# Altium footprint library Diver Board V1.0.PcbLib: 20 footprints (part 1 of 2)
Each footprint in its own frame and in the unit in brackets; x right, y up, seen from the top. Pads: shape width x height; smd on the part's side, far side on the other; paste and mask are expansions set on the pad; w line width, h text height; cw(c..) or ccw(c..) is an arc to the next point about the centre after c.
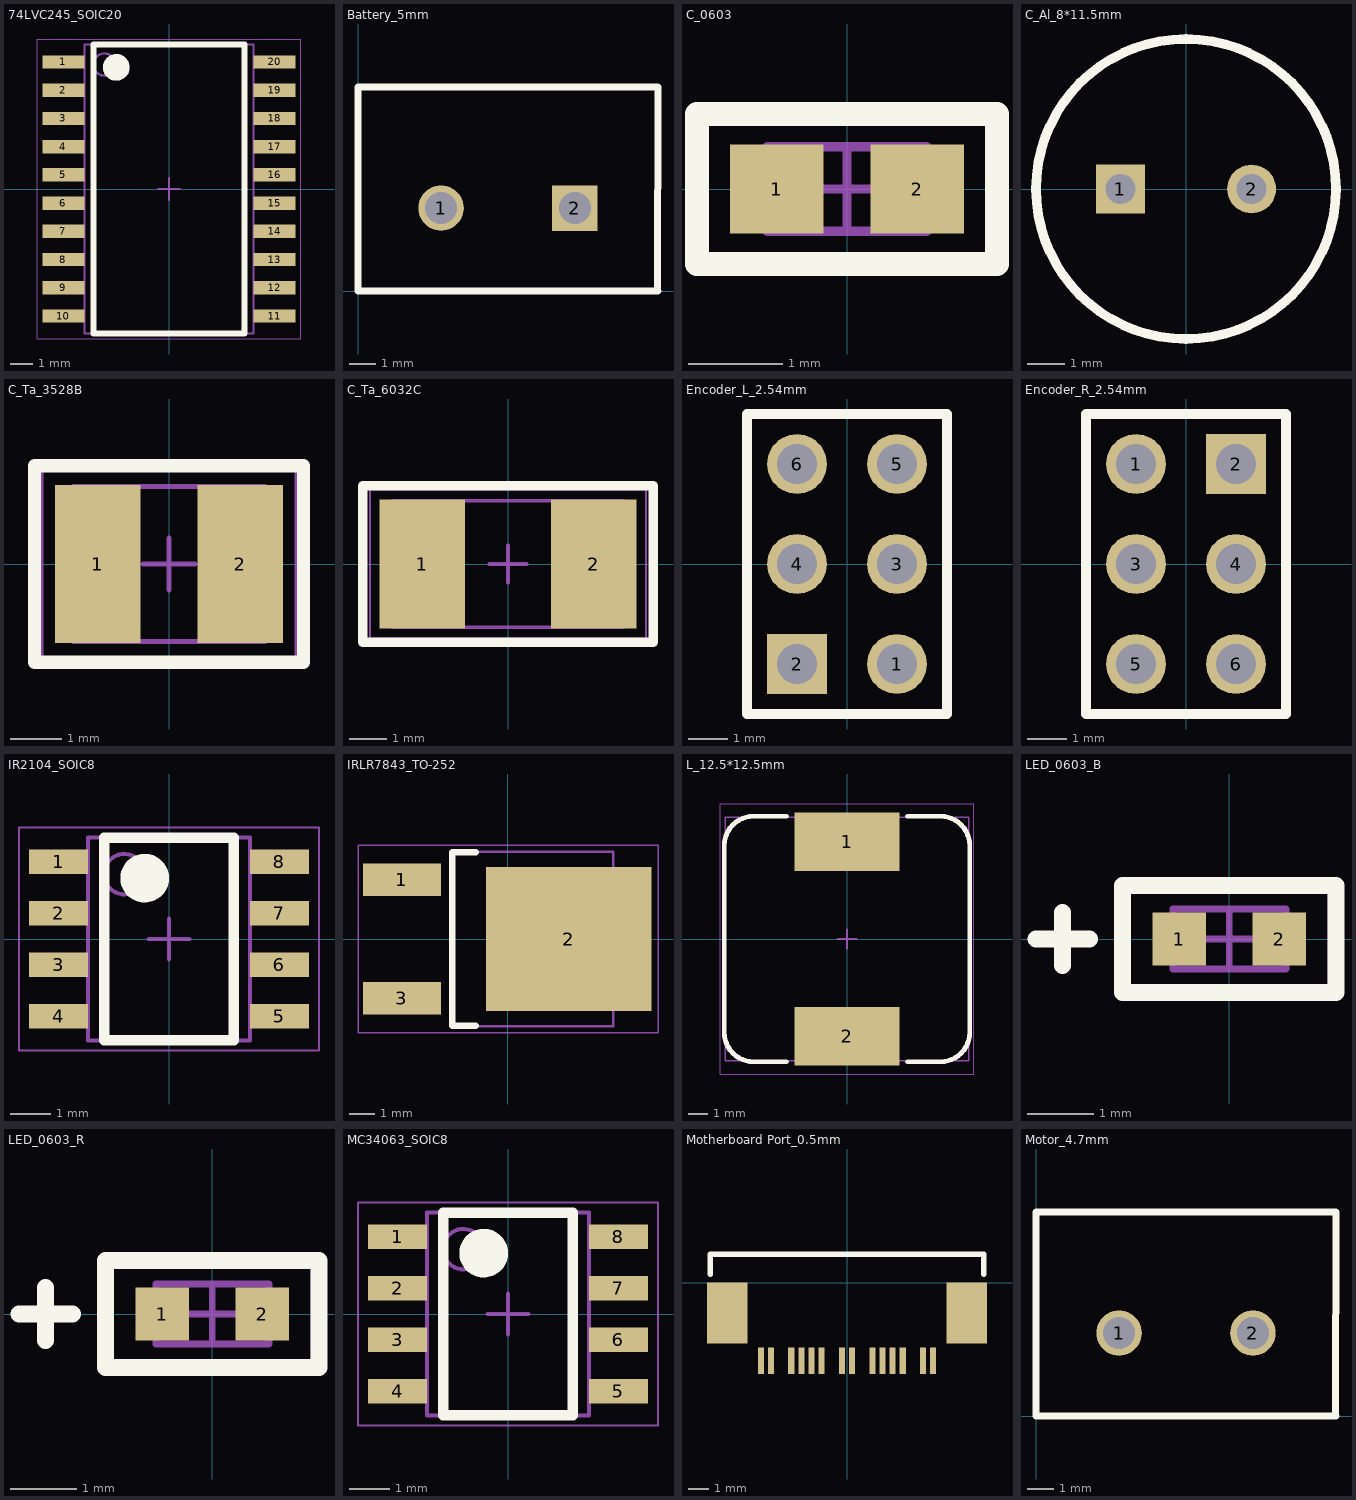
[diagram p0: the footprints below, top view; thin cyan lines are the x and y axes]

## 74LVC245_SOIC20 [mm]
pads (20):
  rect 1.9x0.6 smd: 1(-4.75,5.715) 2(-4.75,4.445) 3(-4.75,3.175) 4(-4.75,1.905) 5(-4.75,0.635) 6(-4.75,-0.635) 7(-4.75,-1.905) 8(-4.75,-3.175) 9(-4.75,-4.445) 10(-4.75,-5.715) 11(4.75,-5.715) 12(4.75,-4.445) 13(4.75,-3.175) 14(4.75,-1.905) 15(4.75,-0.635) 16(4.75,0.635) 17(4.75,1.905) 18(4.75,3.175) 19(4.75,4.445) 20(4.75,5.715)
Top Overlay:
  circle w0.6: c-2.373,5.473 r0.3
  lines w0.254: 1.1,6.5 3.4,6.5 3.4,-6.5 -3.4,-6.5 -3.4,6.5 1.2,6.5
Assembly Top:
  circle w0.1: c-2.9,5.6 r0.5
  lines w0.1: -3.8,-6.5 -3.8,6.5 3.8,6.5 3.8,-6.5 -3.8,-6.5
Courtyard Top:
  lines w0.05: -5.925,-6.75 -5.925,6.75 5.925,6.75 5.925,-6.75 -5.925,-6.75
  lines w0.1: -0.5,0 0.5,0 ; 0,-0.5 0,0.5
3D body "TI_SN74LVC245A_SOIC-20.stp": height 1.75, standoff 0, extent -5.164,-6.4 5.165,6.4

## Battery_5mm [mm]
pads (2):
  round 1.7 hole 1.2: 1(3.1,3.1)
  rect 1.7x1.7 hole 1.2: 2(8.1,3.1)
Top Overlay:
  lines w0.254: 0,7.6 0,0 11.2,0 ; 0,7.62 11.2,7.62 ; 11.176,0 11.2,7.6
3D body "PHOENIX CONTACT_2P_5mm_10mm.stp": height 10, standoff -3.5, extent 0.03,-0.975 10.6,7.175

## C_0603 [mm]
pads (2):
  rect 1x0.95 smd: 1(-0.75,0) 2(0.75,0)
Top Overlay:
  lines w0.254: -1.6,-0.8 1.6,-0.8 1.6,0.8 -1.6,0.8 -1.6,-0.8
Assembly Top:
  lines w0.1: -0.85,-0.45 -0.85,0.45 0.85,0.45 0.85,-0.45 -0.85,-0.45
Courtyard Top:
  lines w0.05: -1.5,-0.75 -1.5,0.75 1.5,0.75 1.5,-0.75 -1.5,-0.75
  lines w0.1: -0.45,0 0.45,0 ; 0,-0.45 0,0.45
3D body "C_0603.STEP": height 0.9, standoff 0, extent -0.8,-0.4 0.8,0.4

## C_Al_8*11.5mm [mm]
pads (2):
  rect 1.3x1.3 hole 0.8: 1(-1.75,0)
  round 1.3 hole 0.8: 2(1.75,0)
Top Overlay:
  circle w0.254: c0,0 r4
3D body "8x11.5_Lead.stp": height 11.5, standoff -19, extent -4,-3.997 4,3.998
3D body: height 0.45, standoff 0, extent 0,-1.27 0,-1.27

## C_Ta_3528B [mm]
pads (2):
  rect 1.65x3.05 smd: 1(-1.375,0) 2(1.375,0)
Top Overlay:
  lines w0.254: -2.6,-1.9 2.6,-1.9 2.6,1.9 -2.6,1.9 -2.6,-1.9
Assembly Top:
  lines w0.1: -1.85,-1.5 -1.85,1.5 1.85,1.5 1.85,-1.5 -1.85,-1.5
Courtyard Top:
  lines w0.05: -2.45,-1.8 -2.45,1.8 2.45,1.8 2.45,-1.8 -2.45,-1.8
  lines w0.1: -0.5,0 0.5,0 ; 0,-0.5 0,0.5
3D body "CaseB_3528.STEP": height 1.9, standoff 0, extent -1.77,-1.4 1.73,1.4

## C_Ta_6032C [mm]
pads (2):
  rect 2.3x3.45 smd: 1(-2.3,0) 2(2.3,0)
Top Overlay:
  lines w0.254: -3.9,-2.1 3.9,-2.1 3.9,2.1 -3.9,2.1 -3.9,-2.1
Assembly Top:
  lines w0.1: -3.1,-1.7 3.1,-1.7 3.1,1.7 -3.1,1.7 -3.1,-1.7
Courtyard Top:
  lines w0.05: -3.7,-2 3.7,-2 3.7,2 -3.7,2 -3.7,-2
  lines w0.1: -0.5,0 0.5,0 ; 0,-0.5 0,0.5
3D body "CaseC_6032.STEP": height 2.5, standoff 0, extent -2.97,-1.6 3.03,1.6

## Encoder_L_2.54mm [mm]
pads (6):
  round 1.52 hole 1.02: 1(1.27,-2.54) 3(1.27,0) 4(-1.27,0) 5(1.27,2.54) 6(-1.27,2.54)
  rect 1.52x1.52 hole 1.02: 2(-1.27,-2.54)
Top Overlay:
  lines w0.254: -2.54,-3.81 -2.54,3.81 0,3.81 2.54,3.81 2.54,-3.81 0,-3.81 -2.54,-3.81
3D body "s3.STEP": height 8.54, standoff -3, extent -2.515,-3.81 -0.025,3.81
3D body "s3.STEP": height 8.54, standoff -3, extent 0.025,-3.81 2.515,3.81

## Encoder_R_2.54mm [mm]
pads (6):
  round 1.52 hole 1.02: 1(-1.27,2.54) 3(-1.27,0) 4(1.27,0) 5(-1.27,-2.54) 6(1.27,-2.54)
  rect 1.52x1.52 hole 1.02: 2(1.27,2.54)
Top Overlay:
  lines w0.254: -2.54,-3.81 0,-3.81 2.54,-3.81 2.54,3.81 0,3.81 -2.54,3.81 -2.54,-3.81
3D body "s3.STEP": height 8.54, standoff -3, extent 0.025,-3.81 2.515,3.81
3D body "s3.STEP": height 8.54, standoff -3, extent -2.515,-3.81 -0.025,3.81

## IR2104_SOIC8 [mm]
pads (8):
  rect 1.45x0.6 smd: 1(-2.725,1.905) 2(-2.725,0.635) 3(-2.725,-0.635) 4(-2.725,-1.905) 5(2.725,-1.905) 6(2.725,-0.635) 7(2.725,0.635) 8(2.725,1.905)
Top Overlay:
  circle w0.6: c-0.6,1.5 r0.3
  lines w0.254: 0.6,2.5 1.6,2.5 1.6,-2.5 -1.6,-2.5 -1.6,2.5 0.7,2.5
Assembly Top:
  circle w0.1: c-1.1,1.6 r0.5
  lines w0.1: -2,-2.5 2,-2.5 2,2.5 -2,2.5 -2,-2.5
Courtyard Top:
  lines w0.05: -3.7,-2.75 3.7,-2.75 3.7,2.75 -3.7,2.75 -3.7,-2.75
  lines w0.1: -0.5,0 0.5,0 ; 0,-0.5 0,0.5
3D body "TI_TPS73xx_SOCI-8.stp": height 1.63, standoff 0, extent -3.011,-2.451 3.011,2.451

## IRLR7843_TO-252 [mm]
height 2.39
pads (3):
  rect 3x1.25 smd: 1(-4.1,2.29) 3(-4.1,-2.29)
  rect 6.4x5.55 smd: 2(2.35,0)
Top Overlay:
  lines w0.254: -1.25,-3.35 -2.15,-3.35 -2.15,3.35 -1.25,3.35
Assembly Top:
  lines w0.1: -2.15,-3.375 4.07,-3.375 4.07,3.375 -2.15,3.375 -2.15,-3.375
Courtyard Top:
  lines w0.05: -5.8,-3.625 5.8,-3.625 5.8,3.625 -5.8,3.625 -5.8,-3.625
  lines w0.1: -0.5,0 0.5,0 ; 0,-0.5 0,0.5
3D body "DPAK_TO-252AA.STEP": height 2.37, standoff -0.03, extent -5.18,-3.37 4.92,3.364

## L_12.5*12.5mm [mm]
height 8
pads (2):
  rect 5.4x3 smd: 1(0,5) 2(0,-5)
Top Overlay:
  lines w0.254: -3.1,-6.3 -4.8,-6.3 cw(c-4.8,-4.8) -6.3,-4.8 -6.3,4.8 cw(c-4.8,4.8) -4.8,6.3 -3.1,6.3 ; 3.1,-6.3 4.8,-6.3 ccw(c4.8,-4.8) 6.3,-4.8 6.3,4.8 ccw(c4.8,4.8) 4.8,6.3 3.1,6.3
Assembly Top:
  lines w0.1: -6.25,-6.25 6.25,-6.25 6.25,6.25 -6.25,6.25 -6.25,-6.25
Courtyard Top:
  lines w0.05: -6.5,-6.95 6.5,-6.95 6.5,6.95 -6.5,6.95 -6.5,-6.95
  lines w0.1: -0.5,0 0.5,0 ; 0,-0.5 0,0.5
3D body "L_470uH.STEP": height 10.35, standoff -0.01, extent -6,-6 6,6

## LED_0603_B [mm]
pads (2):
  rect 0.8x0.8 smd: 1(-0.75,0) 2(0.75,0)
Top Overlay:
  lines w0.254: -2.9,0 -2.1,0 ; -2.5,-0.4 -2.5,0.4 ; -1.6,-0.8 1.6,-0.8 1.6,0.8 -1.6,0.8 -1.6,-0.8
Assembly Top:
  lines w0.1: -0.85,-0.45 -0.85,0.45 0.85,0.45 0.85,-0.45 -0.85,-0.45
Courtyard Top:
  lines w0.05: -1.5,-0.7 -1.5,0.7 1.5,0.7 1.5,-0.7 -1.5,-0.7
  lines w0.1: -0.45,0 0.45,0 ; 0,-0.45 0,0.45
3D body "LED_0603_B.STEP": height 0.6, standoff 0, extent -0.8,-0.4 0.8,0.4

## LED_0603_R [mm]
pads (2):
  rect 0.8x0.8 smd: 1(-0.75,0) 2(0.75,0)
Top Overlay:
  lines w0.254: -2.9,0 -2.1,0 ; -2.5,-0.4 -2.5,0.4 ; -1.6,-0.8 1.6,-0.8 1.6,0.8 -1.6,0.8 -1.6,-0.8
Assembly Top:
  lines w0.1: -0.85,-0.45 -0.85,0.45 0.85,0.45 0.85,-0.45 -0.85,-0.45
Courtyard Top:
  lines w0.05: -1.5,-0.7 -1.5,0.7 1.5,0.7 1.5,-0.7 -1.5,-0.7
  lines w0.1: -0.45,0 0.45,0 ; 0,-0.45 0,0.45
3D body "LED_0603_R.STEP": height 0.6, standoff 0, extent -0.8,-0.4 0.8,0.4

## MC34063_SOIC8 [mm]
pads (8):
  rect 1.45x0.6 smd: 1(-2.725,1.905) 2(-2.725,0.635) 3(-2.725,-0.635) 4(-2.725,-1.905) 5(2.725,-1.905) 6(2.725,-0.635) 7(2.725,0.635) 8(2.725,1.905)
Top Overlay:
  circle w0.6: c-0.6,1.5 r0.3
  lines w0.254: -1.6,-2.5 -1.6,2.5 0.6,2.5 1.6,2.5 1.6,-2.5 -1.6,-2.5
Assembly Top:
  circle w0.1: c-1.1,1.6 r0.5
  lines w0.1: -2,-2.5 -2,2.5 2,2.5 2,-2.5 -2,-2.5
Courtyard Top:
  lines w0.05: -3.7,-2.75 -3.7,2.75 3.7,2.75 3.7,-2.75 -3.7,-2.75
  lines w0.1: -0.5,0 0.5,0 ; 0,-0.5 0,0.5
3D body "TI_TPS73xx_SOCI-8.stp": height 1.63, standoff 0, extent -3.011,-2.451 3.011,2.451

## Motherboard Port_0.5mm [mm]
pads (16):
  rect 0.3x1.3 smd: 1(-4.25,-3.85) 2(-3.75,-3.85) 4(-2.75,-3.85) 5(-2.25,-3.85) 6(-1.75,-3.85) 7(-1.25,-3.85) 9(-0.25,-3.85) 10(0.25,-3.85) 12(1.25,-3.85) 13(1.75,-3.85) 14(2.25,-3.85) 15(2.75,-3.85) 17(3.75,-3.85) 18(4.25,-3.85)
  rect 2x3 smd: ""(-5.9,-1.5) ""(5.9,-1.5)
Top Overlay:
  lines w0.254: -6.75,0.4 -6.75,1.4 6.75,1.4 6.75,0.4
3D body "FPC-18P_0.5mm.STEP": height 2.2, standoff -0.05, extent -6.55,-3.81 6.55,2.689

## Motor_4.7mm [mm]
pads (2):
  round 1.7 hole 1.2: 1(3.1,3.1) 2(8.1,3.1)
Top Overlay:
  lines w0.254: 0,7.6 0,0 11.2,0 ; 0,7.62 11.2,7.62 ; 11.176,0 11.2,7.6
3D body "PHOENIX CONTACT_2P_5mm_10mm.stp": height 10, standoff -3.5, extent 0.03,-0.975 10.6,7.175